# EAGLE library part 16V8 (library 89S52mini)
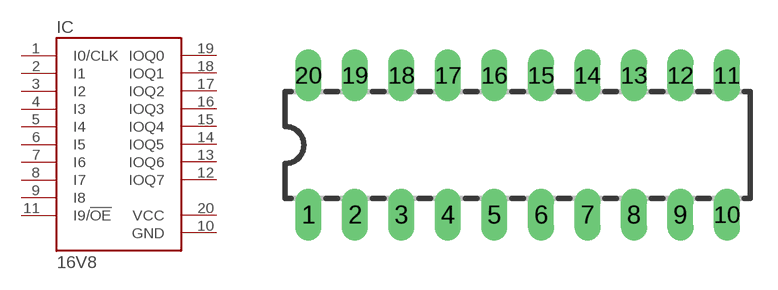
[diagram p4: symbol with the pads of DIL20; footprint DIL20]

Designator prefix IC

## 16V8  [DIL20]
1  I0/CLK  in
2  I1  in
3  I2  in
4  I3  in
5  I4  in
6  I5  in
7  I6  in
8  I7  in
9  I8  in
10  GND  pwr
11  I9/!OE  in
12  IOQ7
13  IOQ6
14  IOQ5
15  IOQ4
16  IOQ3
17  IOQ2
18  IOQ1
19  IOQ0
20  VCC  pwr

## Footprint DIL20 (pad centres in mm)
drill 0.6 pad 1.422 long: 1 -11.43,-3.81; 2 -8.89,-3.81; 3 -6.35,-3.81; 4 -3.81,-3.81; 5 -1.27,-3.81; 6 1.27,-3.81; 7 3.81,-3.81; 8 6.35,-3.81; 9 8.89,-3.81; 10 11.43,-3.81; 11 11.43,3.81; 12 8.89,3.81; 13 6.35,3.81; 14 3.81,3.81; 15 1.27,3.81; 16 -1.27,3.81; 17 -3.81,3.81; 18 -6.35,3.81; 19 -8.89,3.81; 20 -11.43,3.81